# EAGLE library part 050_610_?-14/28 (library con-sullinselectronics)
.050 DIP EDGE CARD CONNECTOR .050 [1.27mm] CONTACT CENTERS .610" INSULATEOR HEIGHT Source: .050 DIP EDGE CARD.pdf
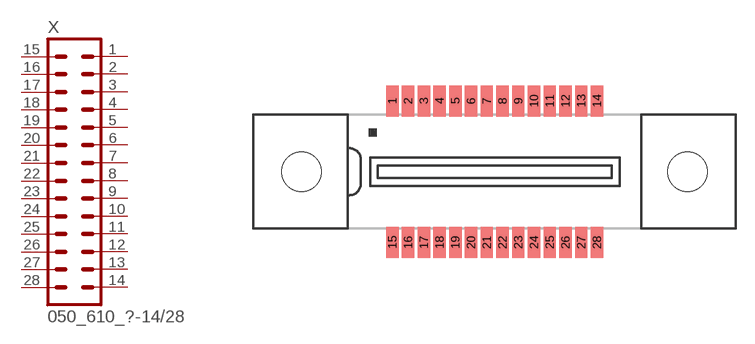
[diagram p5: symbol with the pads of 050_610_HF-14/28; footprint 050_610_HF-14/28]

Designator prefix X

## 050_610_-14/28 (OC_FARNELL: unknown; OC_NEWARK: unknown)  [050_610_HF-14/28]
1  1  pas
2  2  pas
3  3  pas
4  4  pas
5  5  pas
6  6  pas
7  7  pas
8  8  pas
9  9  pas
10  10  pas
11  11  pas
12  12  pas
13  13  pas
14  14  pas
15  15  pas
16  16  pas
17  17  pas
18  18  pas
19  19  pas
20  20  pas
21  21  pas
22  22  pas
23  23  pas
24  24  pas
25  25  pas
26  26  pas
27  27  pas
28  28  pas

## Footprint 050_610_HF-14/28 (pad centres in mm)
.050 DIP EDGE CARD CONNECTOR SURFACE MOUNT .050 [1.27mm] CONTACT CENTERS .610" INSULATEOR HEIGHT Source: .050 DIP EDGE CARD.pdf
smd 1 x 2.5: 1 -8.255,5.715; 2 -6.985,5.715; 3 -5.715,5.715; 4 -4.445,5.715; 5 -3.175,5.715; 6 -1.905,5.715; 7 -0.635,5.715; 8 0.635,5.715; 9 1.905,5.715; 10 3.175,5.715; 11 4.445,5.715; 12 5.715,5.715; 13 6.985,5.715; 14 8.255,5.715; 15 -8.255,-5.715; 16 -6.985,-5.715; 17 -5.715,-5.715; 18 -4.445,-5.715; 19 -3.175,-5.715; 20 -1.905,-5.715; 21 -0.635,-5.715; 22 0.635,-5.715; 23 1.905,-5.715; 24 3.175,-5.715; 25 4.445,-5.715; 26 5.715,-5.715; 27 6.985,-5.715; 28 8.255,-5.715
hole 3.18 at -15.57,0
hole 3.18 at 15.57,0